# EAGLE library part CHRONODOT (library SteelCaveRobotics-Boards)
ChronoDot V2.0
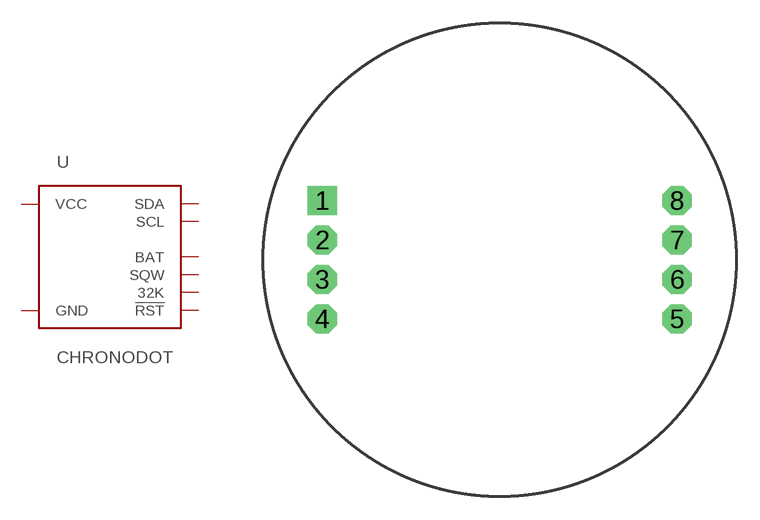
[diagram p1: symbol with the pads of CHRONODOT; footprint CHRONODOT]

Designator prefix -

## CHRONODOT  [CHRONODOT]
1  BAT
2  32K
3  SQW
4  !RST!
5  SDA
6  SCL
7  VCC  pwr
8  GND  pwr

## Footprint CHRONODOT (pad centres in mm)
ChronoDot V2.0
drill 1.016 pad 1.88 square: 1 -11.43,3.81
drill 1.016 pad 1.88 octagon: 2 -11.43,1.27; 3 -11.43,-1.27; 4 -11.43,-3.81; 5 11.43,-3.81; 6 11.43,-1.27; 7 11.43,1.27; 8 11.43,3.81